# Altium footprint library PCB - LED - KINGBRIGHT KTPB-1612.PCBLIB: 1 footprints
Each footprint in its own frame and in the unit in brackets; x right, y up, seen from the top. Pads: shape width x height; smd on the part's side, far side on the other; paste and mask are expansions set on the pad; w line width, h text height; cw(c..) or ccw(c..) is an arc to the next point about the centre after c.
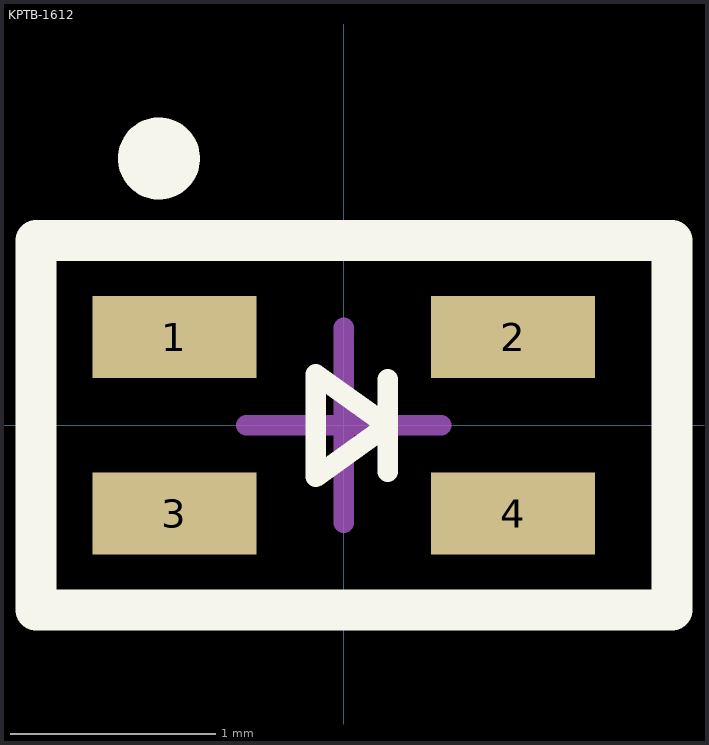
[diagram p0: the footprint, top view; thin cyan lines are the x and y axes]

## KPTB-1612 [mm] "Chip Diode, 4-Leads, Body 1.6x1.25mm, IPC Medium Density"
height 1.1
pads (4):
  rect 0.8x0.4 smd: 1(-0.825,0.43) 2(0.825,0.43) 3(-0.825,-0.43) 4(0.825,-0.43)
Top Overlay:
  circle w0.2: c-0.9,1.3 r0.1
  lines w0.1: 0.214,-0.226 0.214,-0.001 ; 0.214,0.224 0.214,-0.001 ; 0.214,-0.001 -0.136,-0.251 -0.136,-0.001 -0.136,0.249 0.214,-0.001
  lines w0.2: -1.5,-0.9 1.6,-0.9 1.6,0.9 -1.5,0.9 -1.5,-0.9
Mechanical 13:
  lines w0.1: -1.5,-0.9 -1.5,0.9 1.6,0.9 1.6,-0.9 -1.5,-0.9
Mechanical 15:
  lines w0.05: -1.5,-0.9 1.6,-0.9 1.6,0.9 -1.5,0.9 -1.5,-0.9
Mechanical 9:
  lines w0.1: -0.475,0 0.475,0 ; 0,-0.475 0,0.475
3D body "User Library-KPTB-1612.step": height 0.5, standoff -0.01, extent -0.802,-0.625 0.802,0.625